# Altium footprint library DC-Brush-Motor.PcbLib: 8 footprints
Each footprint in its own frame and in the unit in brackets; x right, y up, seen from the top. Pads: shape width x height; smd on the part's side, far side on the other; paste and mask are expansions set on the pad; w line width, h text height; cw(c..) or ccw(c..) is an arc to the next point about the centre after c.
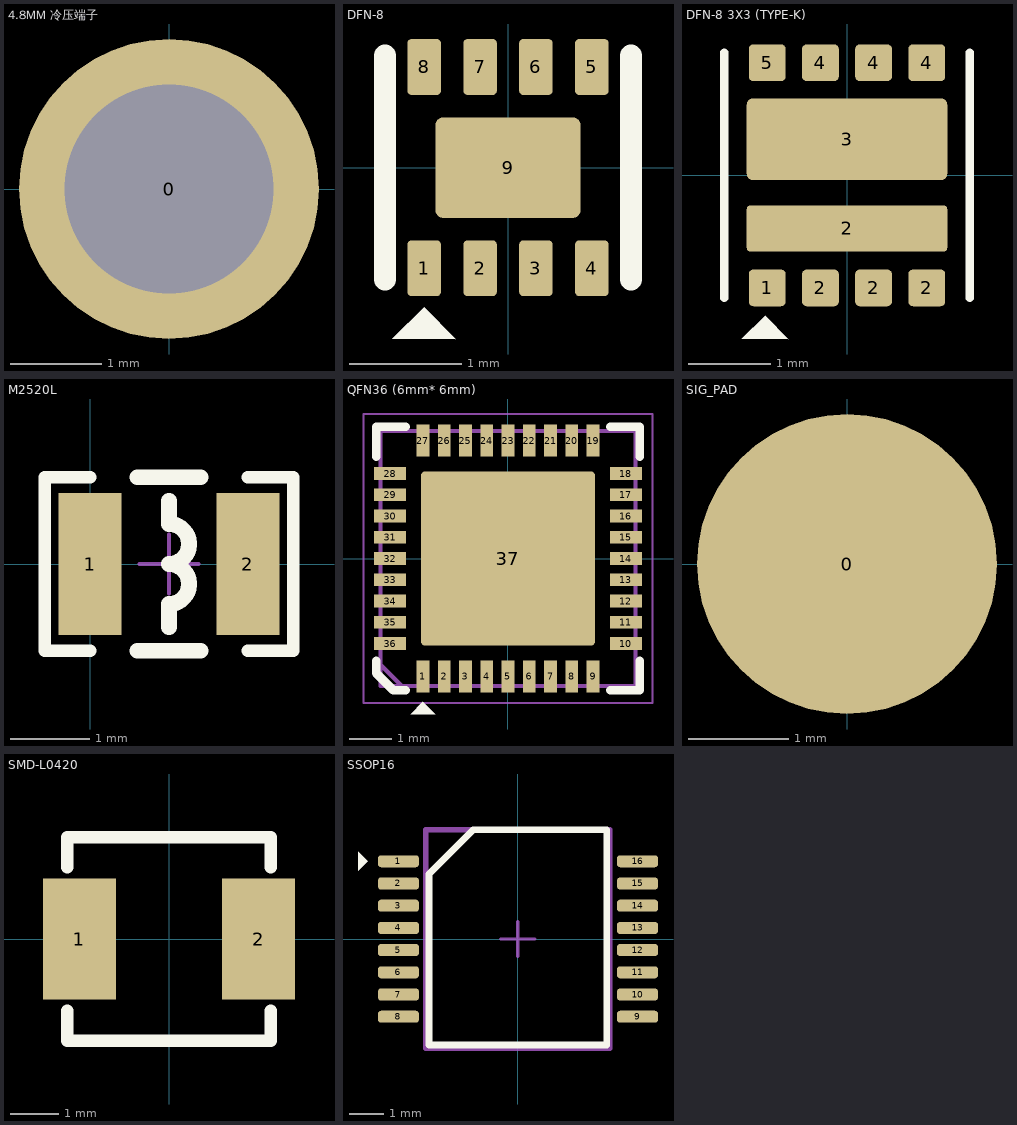
[diagram p0: the footprints below, top view; thin cyan lines are the x and y axes]

## 4.8MM 冷压端子 [mm]
pads (1):
  round 3.3 hole 2.3: 0(0,0)

## DFN-8 [mm]
height 1
pads (9):
  rrect25% 0.3x0.5 smd mask+0.05: 1(-0.75,-0.9) 2(-0.25,-0.9) 3(0.25,-0.9) 4(0.75,-0.9) 5(0.75,0.9) 6(0.25,0.9) 7(-0.25,0.9) 8(-0.75,0.9)
  rrect15% 1.3x0.9 smd mask+0.05: 9(0,0)
Top Overlay:
  region: -0.467,-1.533 -1.033,-1.533 -0.75,-1.25
  lines w0.2: -1.1,-1 -1.1,1 ; 1.1,-1 1.1,1
3D body "DFN-8(2X2 0.5pitch).step": height 0.8, standoff 0.05, extent -1,-1 1,1

## DFN-8 3X3 (TYPE-K) [mm]
pads (10):
  rrect25% 0.45x0.45 smd mask+0.05: 1(-0.975,-1.375) 2(-0.325,-1.375) 2(0.325,-1.375) 2(0.975,-1.375) 4(-0.325,1.375) 4(0.325,1.375) 4(0.975,1.375) 5(-0.975,1.375)
  rrect15% 2.45x0.565 smd mask+0.05: 2(0,-0.65)
  rrect15% 2.45x1 smd mask+0.05: 3(0,0.44)
Top Overlay:
  region: -0.717,-2 -1.283,-2 -1,-1.717
  lines w0.1: -1.5,-1.5 -1.5,1.5 ; 1.5,-1.5 1.5,1.5
3D body "DFN8_3x3mm.step": height 0.8, standoff 0, extent -1.5,-1.51 1.5,1.51

## M2520L [mm] "小功率贴片电感"
height 1
pads (2):
  rect 0.8x1.8 smd mask+0.1: 1(0,0) 2(2,0)
Top Overlay:
  lines w0.16: 0,-1.1 -0.575,-1.1 -0.575,1.1 0,1.1 ; 2,-1.1 2.575,-1.1 2.575,1.1 2,1.1
  lines w0.2: 0.6,-1.1 1.4,-1.1 ; 0.6,1.1 1.4,1.1 ; 1,-0.8 1,-0.508 ccw(c1,-0.254) 1,0 ccw(c1,0.254) 1,0.508 1,0.8
Mechanical 15:
  lines w0.05: 0.625,0 1.375,0 ; 1,-0.375 1,0.375
3D body "0805L.STEP": height 0.9, standoff 0, extent 0,-0.6 2,0.6

## QFN36 (6mm* 6mm) [mm]
height 1
pads (37):
  rrect5% 0.3x0.75 smd: 1(-2,-2.775) 2(-1.5,-2.775) 3(-1,-2.775) 4(-0.5,-2.775) 5(0,-2.775) 6(0.5,-2.775) 7(1,-2.775) 8(1.5,-2.775) 9(2,-2.775) 19(2,2.775) 20(1.5,2.775) 21(1,2.775) 22(0.5,2.775) 23(0,2.775) 24(-0.5,2.775) 25(-1,2.775) 26(-1.5,2.775) 27(-2,2.775)
  rrect5% 0.75x0.3 smd: 10(2.775,-2) 11(2.775,-1.5) 12(2.775,-1) 13(2.775,-0.5) 14(2.775,0) 15(2.775,0.5) 16(2.775,1) 17(2.775,1.5) 18(2.775,2) 28(-2.775,2) 29(-2.775,1.5) 30(-2.775,1) 31(-2.775,0.5) 32(-2.775,0) 33(-2.775,-0.5) 34(-2.775,-1) 35(-2.775,-1.5) 36(-2.775,-2)
  rrect5% 4.1x4.1 smd: 37(0,0)
Top Overlay:
  region: -1.717,-3.658 -2.283,-3.658 -2,-3.375
  lines w0.2: -3.1,-2.4 -3.1,-2.7 -2.7,-3.1 -2.4,-3.1 ; -3.1,2.4 -3.1,3.1 -2.4,3.1 ; 2.4,-3.1 3.1,-3.1 3.1,-2.4 ; 2.4,3.1 3.1,3.1 3.1,2.4
Mechanical 13:
  lines w0.1: -3,-2.5 -2.5,-3 ; -3,-3 3,-3 3,3 -3,3 -3,-3
Mechanical 15:
  lines w0.05: -3.4,-3.4 3.4,-3.4 3.4,3.4 -3.4,3.4 -3.4,-3.4
3D body "STM32F103T8U6.stp": height 1, standoff 0, extent -3.05,-3.05 3.05,3.05

## SIG_PAD [mm]
height 1
pads (1):
  round 3 smd mask+0.05: 0(0,0)

## SMD-L0420 [mm]
pads (2):
  rect 1.5x2.5 smd: 1(-1.85,0) 2(1.85,0)
Top Overlay:
  lines w0.254: -2.1,-1.481 -2.1,-2.1 2.1,-2.1 2.1,-1.481 ; -2.1,1.481 -2.1,2.1 2.1,2.1 2.1,1.481
3D body: height 2.29, standoff 0, extent -2.159,-2.159 2.159,2.032

## SSOP16 [mm]
height 1
pads (16):
  rrect50% 1.2x0.35 smd paste+0: 1(-3.5,2.275) 2(-3.5,1.625) 3(-3.5,0.975) 4(-3.5,0.325) 5(-3.5,-0.325) 6(-3.5,-0.975) 7(-3.5,-1.625) 8(-3.5,-2.275) 9(3.5,-2.275) 10(3.5,-1.625) 11(3.5,-0.975) 12(3.5,-0.325) 13(3.5,0.325) 14(3.5,0.975) 15(3.5,1.625) 16(3.5,2.275)
Top Overlay:
  region: -4.683,1.992 -4.4,2.275 -4.683,2.558
  lines w0.2: -2.6,-3.1 2.6,-3.1 2.6,3.2 -1.3,3.2 -2.6,1.9 -2.6,-3.1
Mechanical 12:
  lines w0.15: -2.7,-3.2 2.7,-3.2 2.7,3.2 -2.7,3.2 -2.7,-3.2
Mechanical 15:
  lines w0.1: -0.5,0 0.5,0 ; 0,-0.5 0,0.5
3D body "SSOP-16.STEP": height 1.9, standoff 0, extent -3.9,-3.1 3.9,3.1